# EAGLE library part AT25DF321A-SH-B (library SamacSys_Parts)
Flash Memory 32M 2.7-3.6V, 100Mhz Serial Flash Source: Datasheet <http://docs-emea.rs-online.com/webdocs/0efc/0900766b80efc106.pdf>
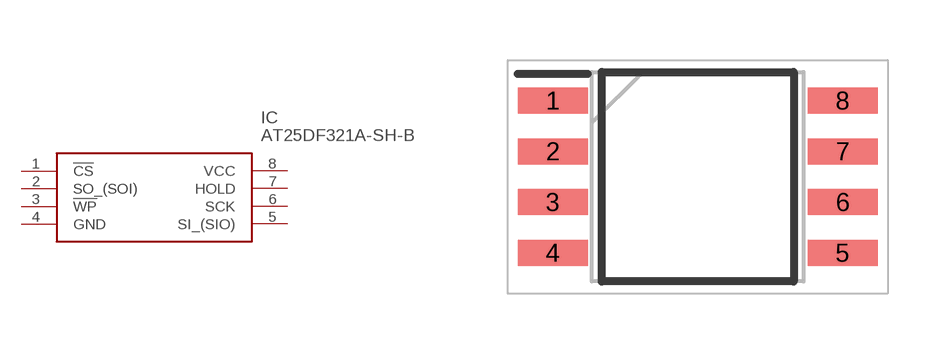
[diagram p9: symbol with the pads of SOIC127P798X216-8N; footprint SOIC127P798X216-8N]

Designator prefix IC

## AT25DF321A-SH-B (DESCRIPTION: Flash Memory 32M 2.7-3.6V, 100Mhz Serial Flash; HEIGHT: 2.16mm; MANUFACTURER_NAME: Adesto Technologies; MANUFACTURER_PART_NUMBER: AT25DF321A-SH-B; MOUSER_PART_NUMBER: 556-AT25DF321A-SH-B; MOUSER_PRICE-STOCK: https://www.mouser.com/Search/Refine.aspx?Keyword=556-AT25DF321A-SH-B)  [SOIC127P798X216-8N]
1  !CS  in
2  SO_(SOI)
3  !WP
4  GND  pwr
5  SI_(SIO)
6  SCK
7  HOLD
8  VCC  pwr

## Footprint SOIC127P798X216-8N (pad centres in mm)
8S2
smd 1.75 x 0.65: 1 -3.625,1.905; 2 -3.625,0.635; 3 -3.625,-0.635; 4 -3.625,-1.905; 5 3.625,-1.905; 6 3.625,-0.635; 7 3.625,0.635; 8 3.625,1.905